# Altium schematic symbol library SJ-43516-SMT.SchLib: 1 symbol
Pins are listed as number, name and electrical type; pins without a type are passive.

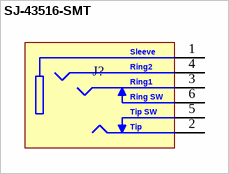
[diagram p0: symbol SJ-43516-SMT]

## SJ-43516-SMT
designator J?
3.5 mm Right-Angle Stereo Jack, 6 Pin PCB Mount, Isolated Ground
pins: 1, 2, 3, 4, 5, 6
text: Sleeve; Ring2; Ring1; Ring SW; Tip SW; Tip